# Altium footprint library RayPCB20210502.PcbLib: 227 footprints (part 2 of 15)
Each footprint in its own frame and in the unit in brackets; x right, y up, seen from the top. Pads: shape width x height; smd on the part's side, far side on the other; paste and mask are expansions set on the pad; w line width, h text height; cw(c..) or ccw(c..) is an arc to the next point about the centre after c.
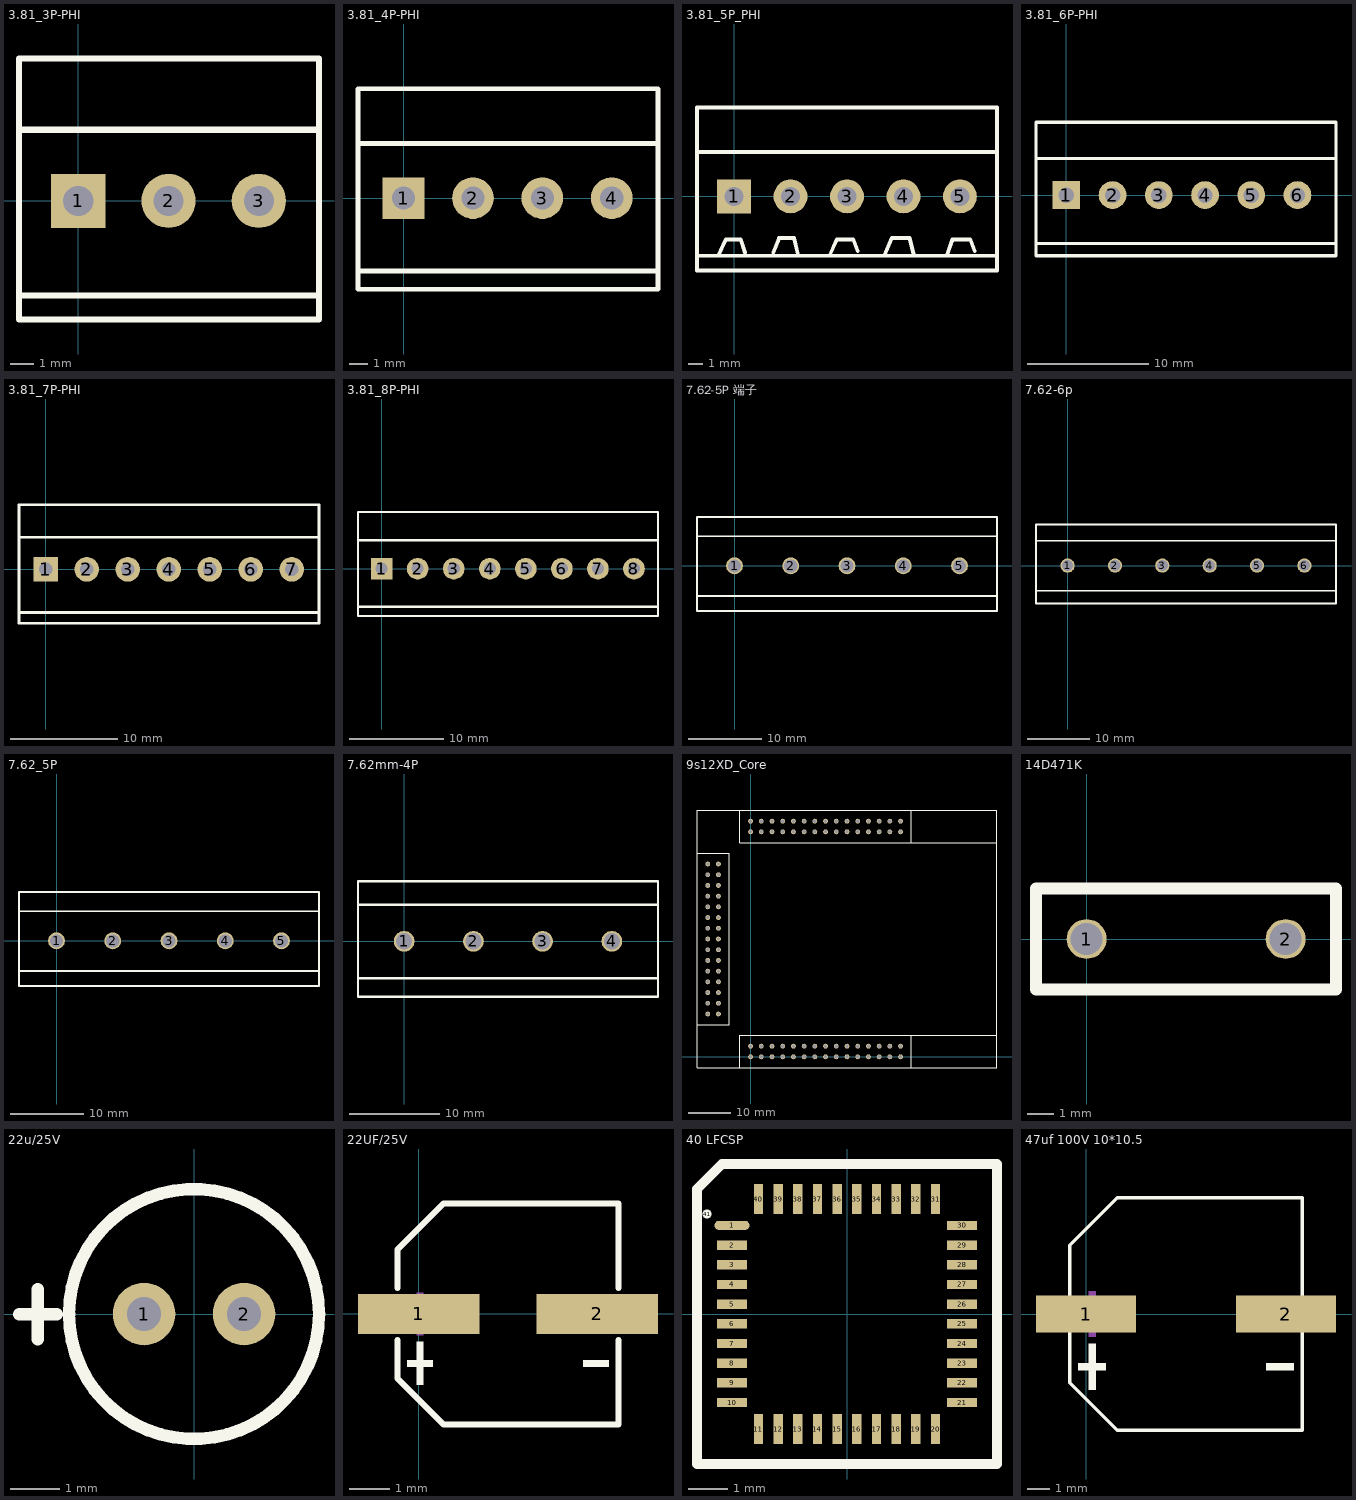
[diagram p1: the footprints below, top view; thin cyan lines are the x and y axes]

## 3.81_3P-PHI [mil]
pads (3):
  rect 90x90 hole 50: 1(0,0)
  round 90 hole 50: 2(150,0) 3(300,0)
Top Overlay:
  lines w10: -98.43,-157.48 400,-157.48 ; -98.43,118.11 400,118.11 ; -98.43,-196.85 400,-196.85 400,236.22 -98.43,236.22 -98.43,-196.85

## 3.81_4P-PHI [mil]
pads (4):
  rect 90x90 hole 50: 1(0,0)
  round 90 hole 50: 2(150,0) 3(300,0) 4(450,0)
Top Overlay:
  lines w10: -98.43,-157.48 550,-157.48 ; -98.43,118.11 550,118.11 ; -98.43,-196.85 550,-196.85 550,236.22 -98.43,236.22 -98.43,-196.85

## 3.81_5P_PHI [mil] "3.81mm Connect"
pads (5):
  rect 90x90 hole 50: 1(0,0)
  round 90 hole 50: 2(150,0) 3(300,0) 4(450,0) 5(600,0)
Top Overlay:
  lines w10: -98.43,-157.48 690.55,-157.48 ; -98.43,118.11 698.43,118.11 ; -41.73,-157.48 -22.05,-114.17 17.32,-114.17 29.13,-149.61 ; 103.94,-149.61 119.69,-110.24 159.06,-110.24 170.87,-157.48 ; 253.54,-157.48 273.23,-114.17 316.54,-114.17 328.35,-145.67 ; 399.21,-157.48 418.9,-110.24 466.14,-110.24 477.95,-157.48 ; 564.57,-157.48 580.32,-114.17 627.56,-114.17 639.37,-145.67 ; -98.43,-196.85 -98.43,236.22 698.43,236.22 698.43,-196.85 -98.43,-196.85

## 3.81_6P-PHI [mil]
pads (6):
  rect 90x90 hole 50: 1(0,0)
  round 90 hole 50: 2(150,0) 3(300,0) 4(450,0) 5(600,0) 6(750,0)
Top Overlay:
  lines w10: -98.43,-157.48 875,-157.48 ; -98.43,118.11 875,118.11 ; -98.43,-196.85 875,-196.85 875,236.22 -98.43,236.22 -98.43,-196.85

## 3.81_7P-PHI [mil]
pads (7):
  rect 90x90 hole 50: 1(0,0)
  round 90 hole 50: 2(150,0) 3(300,0) 4(450,0) 5(600,0) 6(750,0) 7(900,0)
Top Overlay:
  lines w10: -98.43,-157.48 1000,-157.48 ; -98.43,118.11 1000,118.11 ; -98.43,-196.85 1000,-196.85 1000,236.22 -98.43,236.22 -98.43,-196.85

## 3.81_8P-PHI [mil]
pads (8):
  rect 90x90 hole 50: 1(0,0)
  round 90 hole 50: 2(150,0) 3(300,0) 4(450,0) 5(600,0) 6(750,0) 7(900,0) 8(1050,0)
Top Overlay:
  lines w10: -98.43,-157.48 1150,-157.48 ; -98.43,118.11 1150,118.11 ; -98.43,-196.85 -98.43,236.22 1150,236.22 1150,-196.85 -98.43,-196.85

## 7.62-5P 端子 [mil]
pads (5):
  round 90 hole 70: 1(0,0) 2(300,0) 3(600,0) 4(900,0) 5(1200,0)
Top Overlay:
  lines w10: -200,-160 1400,-160 ; -200,158.11 1400,158.11 ; -200,-240 1400,-240 1400,260 -200,260 -200,-240

## 7.62-6p [mil]
pads (6):
  round 90 hole 70: 1(0,0) 2(300,0) 3(600,0) 4(900,0) 5(1200,0) 6(1500,0)
Top Overlay:
  lines w10: -200,-160 1700,-160 ; -200,158.11 1700,158.11 ; -200,-240 1700,-240 1700,260 -200,260 -200,-240

## 7.62_5P [mil]
pads (5):
  round 90 hole 70: 1(0,0) 2(300,0) 3(600,0) 4(900,0) 5(1200,0)
Top Overlay:
  lines w10: -200,-160 1400,-160 ; -200,158.11 1400,158.11 ; -200,-240 -200,260 1400,260 1400,-240 -200,-240

## 7.62mm-4P [mil]
pads (4):
  round 90 hole 70: 1(0,0) 2(300,0) 3(600,0) 4(900,0)
Top Overlay:
  lines w10: -200,-160 1100,-160 ; -200,158.11 1100,158.11 ; -200,-240 1100,-240 1100,260 -200,260 -200,-240

## 9s12XD_Core [mil]
pads (90):
  round 45 hole 31: 1(0,0) 2(0,100) 3(100,0) 4(100,100) 5(200,0) 6(200,100) 7(300,0) 8(300,100) 9(400,0) 10(400,100) 11(500,0) 12(500,100) 13(600,0) 14(600,100) 15(700,0) 16(700,100) 17(800,0) 18(800,100) 19(900,0) 20(900,100) 21(1000,0) 22(1000,100) 23(1100,0) 24(1100,100) 25(1200,0) 26(1200,100) 27(1300,0) 28(1300,100) 29(1400,0) 30(1400,100) 31(-300,400) 32(-400,400) 33(-300,500) 34(-400,500) 35(-300,600) 36(-400,600) 37(-300,700) 38(-400,700) 39(-300,800) 40(-400,800) 41(-300,900) 42(-400,900) 43(-300,1000) 44(-400,1000) 45(-300,1100) 46(-400,1100) 47(-300,1200) 48(-400,1200) 49(-300,1300) 50(-400,1300) 51(-300,1400) 52(-400,1400) 53(-300,1500) 54(-400,1500) 55(-300,1600) 56(-400,1600) 57(-300,1700) 58(-400,1700) 59(-300,1800) 60(-400,1800) 61(0,2100) 62(0,2200) 63(100,2100) 64(100,2200) 65(200,2100) 66(200,2200) 67(300,2100) 68(300,2200) 69(400,2100) 70(400,2200) 71(500,2100) 72(500,2200) 73(600,2100) 74(600,2200) 75(700,2100) 76(700,2200) 77(800,2100) 78(800,2200) 79(900,2100) 80(900,2200) 81(1000,2100) 82(1000,2200) 83(1100,2100) 84(1100,2200) 85(1200,2100) 86(1200,2200) 87(1300,2100) 88(1300,2200) 89(1400,2100) 90(1400,2200)
Top Overlay:
  lines w10: -500,300 -200,300 -200,1900 -500,1900 ; -100,-100 -100,200 2300,200 ; -100,2300 -100,2000 2300,2000 ; 1500,-100 1500,200 ; 1500,2000 1500,2300 ; -500,-100 -500,2300 2300,2300 2300,-100 -500,-100

## 14D471K [mm]
pads (2):
  round 1.5 hole 1.2: 1(0,0) 2(7.5,0)
Top Overlay:
  lines w0.457: -1.905,-1.905 -1.905,1.905 9.398,1.905 9.398,-1.905 -1.905,-1.905

## 22u/25V [mil]
pads (2):
  round 50 hole 27: 1(-40,0) 2(40,0)
Top Overlay:
  circle w10: c0,0 r100
  lines w10: -140,0 -110,0 ; -125,-20 -125,20

## 22UF/25V [mm] "5*5.7"
pads (2):
  rect 3x0.98 smd: 1(0,0) 2(4.4,0)
Top Overlay:
  region: -0.053,-1.749 0.106,-1.749 0.106,-0.689 -0.053,-0.689
  region: 4.055,-1.298 4.691,-1.298 4.691,-1.139 4.055,-1.139
  region: -0.291,-1.298 0.345,-1.298 0.345,-1.139 -0.291,-1.139
  lines w0.152: -0.526,-0.642 -0.526,-1.59 0.61,-2.726 4.926,-2.726 4.926,-0.642 ; -0.526,0.642 -0.526,1.59 0.61,2.726 4.926,2.726 4.926,0.642
Mechanical 15:
  region: -0.053,-0.53 0.106,-0.53 0.106,0.53 -0.053,0.53
  region: 4.055,-0.08 4.691,-0.08 4.691,0.08 4.055,0.08
  region: -0.291,-0.08 0.345,-0.08 0.345,0.08 -0.291,0.08

## 40 LFCSP [mil]
pads (41):
  oval 35x9.3 smd: 1(-115,88.58)
  rect 30x9.3 smd: 2(-115,68.9) 3(-115,49.21) 4(-115,29.53) 5(-115,9.84) 6(-115,-9.84) 7(-115,-29.53) 8(-115,-49.21) 9(-115,-68.9) 10(-115,-88.58) 21(115,-88.58) 22(115,-68.9) 23(115,-49.21) 24(115,-29.53) 25(115,-9.84) 26(115,9.84) 27(115,29.53) 28(115,49.21) 29(115,68.9) 30(115,88.58)
  rect 9.3x30 smd: 11(-88.58,-115) 12(-68.9,-115) 13(-49.21,-115) 14(-29.53,-115) 15(-9.84,-115) 16(9.84,-115) 17(29.53,-115) 18(49.21,-115) 19(68.9,-115) 20(88.58,-115) 31(88.58,115) 32(68.9,115) 33(49.21,115) 34(29.53,115) 35(9.84,115) 36(-9.84,115) 37(-29.53,115) 38(-49.21,115) 39(-68.9,115) 40(-88.58,115)
  round 9 on Top Overlay: 41(-140,100)
Top Overlay:
  lines w10: -150,125 -125,150 ; -150,125 -125,150 ; -150,125 -150,-150 150,-150 150,150 -125,150

## 47uf 100V 10*10.5 [mm]
pads (2):
  rect 4.5x1.65 smd: 1(0,0) 2(9,0)
Top Overlay:
  region: 9.341,-2.214 9.341,-2.523 8.105,-2.523 8.105,-2.214
  region: -0.341,-2.214 -0.341,-2.523 0.895,-2.523 0.895,-2.214
  region: 0.122,-1.339 0.122,-3.399 0.431,-3.399 0.431,-1.339
  lines w0.152: -0.726,-0.852 -0.726,-3.09 1.41,-5.226 9.726,-5.226 9.726,-0.852 ; -0.726,0.852 -0.726,3.09 1.41,5.226 9.726,5.226 9.726,0.852
Mechanical 15:
  region: 9.341,0.155 9.341,-0.155 8.105,-0.155 8.105,0.155
  region: -0.341,0.155 -0.341,-0.155 0.895,-0.155 0.895,0.155
  region: 0.122,1.03 0.122,-1.03 0.431,-1.03 0.431,1.03